# Altium schematic symbol library Driver.SchLib: 1 symbol
Pins are listed as number, name and electrical type; pins without a type are passive.

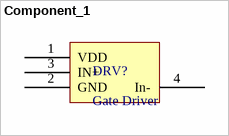
[diagram p0: symbol Component_1]

## Component_1
designator DRV?, comment Gate Driver
pins: 1 VDD, 2 GND, 3 IN+, 4 In-